# Altium footprint library switch-dil.PCBLIB: 88 footprints (part 3 of 6)
Each footprint in its own frame and in the unit in brackets; x right, y up, seen from the top. Pads: shape width x height; smd on the part's side, far side on the other; paste and mask are expansions set on the pad; w line width, h text height; cw(c..) or ccw(c..) is an arc to the next point about the centre after c.
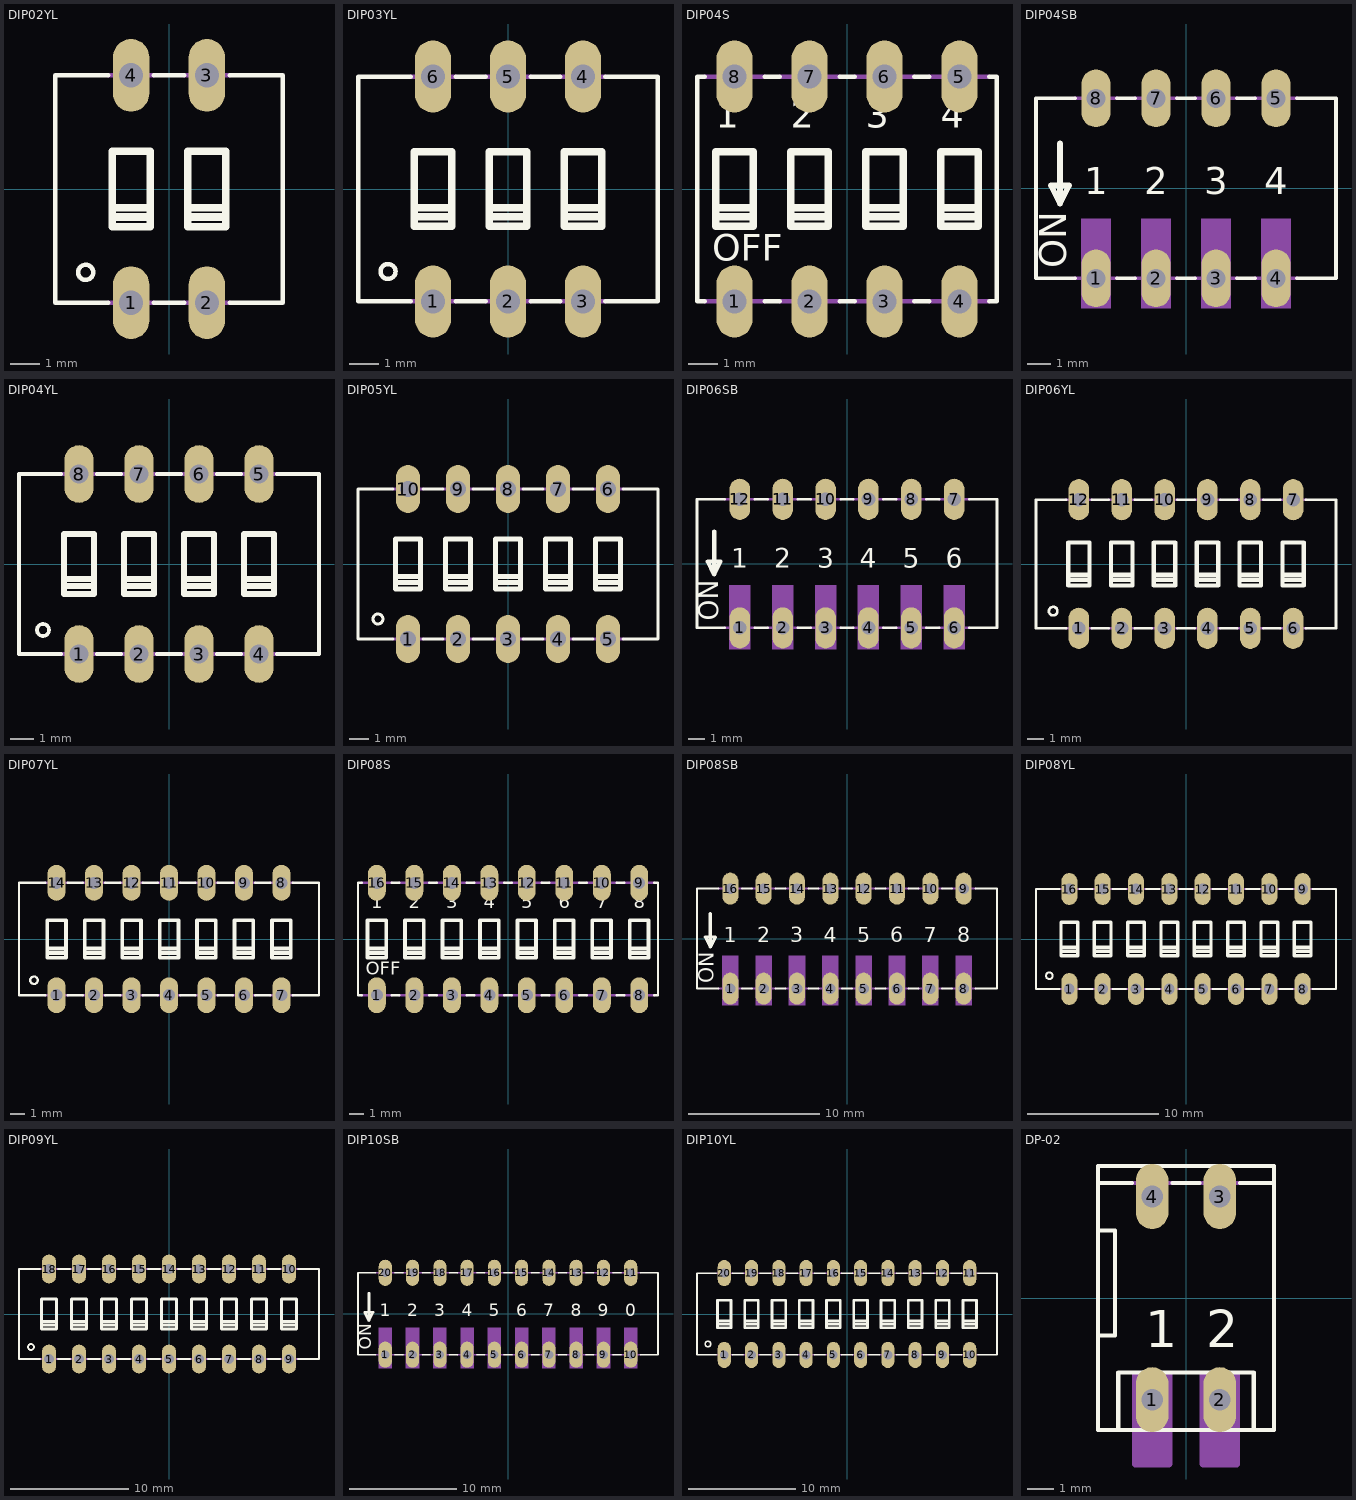
[diagram p2: the footprints below, top view; thin cyan lines are the x and y axes]

## DIP02YL [mil]
pads (4):
  oval 48x96 hole 32: 1(-50,-150) 2(50,-150) 3(50,150) 4(-50,150)
Top Overlay:
  circle w6: c-110,-110 r10
  lines w6: -80,-150 -150,-150 -150,150 -80,150 ; -20,-150 20,-150 ; -20,150 20,150 ; 80,-150 150,-150 150,150 80,150
  lines w10: -75,-37 -25,-37 ; -75,-37 -75,-50 -25,-50 -25,-37 ; -75,-37 -75,-25 ; -75,-25 -75,50 -25,50 -25,-25 ; -75,-25 -25,-25 ; -25,-37 -25,-25 ; 25,-37 75,-37 ; 25,-37 25,-50 75,-50 75,-37 ; 25,-37 25,-25 ; 25,-25 25,50 75,50 75,-25 ; 25,-25 75,-25 ; 75,-37 75,-25
Mechanical 16:
  lines w6: -80,-150 -20,-150 ; -80,150 -20,150 ; 20,-150 80,-150 ; 20,150 80,150
  text "1" at -65,-120 h77.5
  text "2" at 35,-120 h77.5
  text "ON" at -65,67 h77.5

## DIP03YL [mil]
pads (6):
  oval 48x96 hole 32: 1(-100,-150) 2(0,-150) 3(100,-150) 4(100,150) 5(0,150) 6(-100,150)
Top Overlay:
  circle w6: c-160,-110 r10
  lines w6: -130,-150 -200,-150 -200,150 -130,150 ; -70,-150 -30,-150 ; -70,150 -30,150 ; 30,-150 70,-150 ; 30,150 70,150 ; 130,-150 200,-150 200,150 130,150
  lines w10: -125,-37 -75,-37 ; -125,-37 -125,-50 -75,-50 -75,-37 ; -125,-37 -125,-25 ; -125,-25 -125,50 -75,50 -75,-25 ; -125,-25 -75,-25 ; -75,-37 -75,-25 ; -25,-37 25,-37 ; -25,-37 -25,-50 25,-50 25,-37 ; -25,-37 -25,-25 ; -25,-25 -25,50 25,50 25,-25 ; -25,-25 25,-25 ; 25,-37 25,-25 ; 75,-37 125,-37 ; 75,-37 75,-50 125,-50 125,-37 ; 75,-37 75,-25 ; 75,-25 75,50 125,50 125,-25 ; 75,-25 125,-25 ; 125,-37 125,-25
Mechanical 16:
  lines w6: -130,-150 -70,-150 ; -130,150 -70,150 ; -30,-150 30,-150 ; -30,150 30,150 ; 70,-150 130,-150 ; 70,150 130,150
  text "1" at -115,-120 h77.5
  text "2" at -15,-120 h77.5
  text "3" at 85,-120 h77.5
  text "ON" at -115,67 h77.5

## DIP04S [mil]
pads (8):
  oval 48x96 hole 32: 1(-150,-150) 2(-50,-150) 3(50,-150) 4(150,-150) 5(150,150) 6(50,150) 7(-50,150) 8(-150,150)
Top Overlay:
  lines w6: -190,-150 -200,-150 -200,150 -190,150 ; -110,-150 -90,-150 ; -110,150 -90,150 ; -10,-150 10,-150 ; -10,150 10,150 ; 90,-150 110,-150 ; 90,150 110,150 ; 190,-150 200,-150 200,150 190,150
  lines w10: -175,-37 -125,-37 ; -175,-37 -175,-50 -125,-50 -125,-37 ; -175,-37 -175,-25 ; -175,-25 -175,50 -125,50 -125,-25 ; -175,-25 -125,-25 ; -125,-37 -125,-25 ; -75,-37 -25,-37 ; -75,-37 -75,-50 -25,-50 -25,-37 ; -75,-37 -75,-25 ; -75,-25 -75,50 -25,50 -25,-25 ; -75,-25 -25,-25 ; -25,-37 -25,-25 ; 25,-37 75,-37 ; 25,-37 25,-50 75,-50 75,-37 ; 25,-37 25,-25 ; 25,-25 25,50 75,50 75,-25 ; 25,-25 75,-25 ; 75,-37 75,-25 ; 125,-37 175,-37 ; 125,-37 125,-50 175,-50 175,-37 ; 125,-37 125,-25 ; 125,-25 125,50 175,50 175,-25 ; 125,-25 175,-25 ; 175,-37 175,-25
  text "1" at -175,70 h60.45
  text "2" at -75,70 h60.45
  text "3" at 25,70 h60.45
  text "4" at 125,70 h60.45
  text "OFF" at -180,-108 h60.45
Mechanical 16:
  lines w6: -190,-150 -110,-150 ; -190,150 -110,150 ; -90,-150 -10,-150 ; -90,150 -10,150 ; 10,-150 90,-150 ; 10,150 90,150 ; 110,-150 190,-150 ; 110,150 190,150

## DIP04SB [mil]
pads (8):
  oval 48x96 hole 32: 1(-150,-150) 2(-50,-150) 3(50,-150) 4(150,-150) 5(150,150) 6(50,150) 7(-50,150) 8(-150,150)
Top Overlay:
  lines w6: -185,-150 -250,-150 -250,150 -185,150 ; -115,-150 -85,-150 ; -115,150 -85,150 ; -15,-150 15,-150 ; -15,150 15,150 ; 85,-150 115,-150 ; 85,150 115,150 ; 185,-150 250,-150 250,150 185,150
  lines w10: -210,75 -210,-25 ; -210,-25 -195,5 -225,5 -210,-25
  text "1" at -170,-25 h77.5
  text "2" at -70,-25 h77.5
  text "3" at 30,-25 h77.5
  text "4" at 130,-25 h77.5
  text "ON" at -185,-133 h77.5
Mechanical 16:
  rectangle: -175,-200 -125,-50
  rectangle: -75,-200 -25,-50
  rectangle: 25,-200 75,-50
  rectangle: 125,-200 175,-50
  lines w6: -185,-150 -175,-150 ; -185,150 -115,150 ; -130,-150 -115,-150 ; -85,-150 -75,-150 ; -85,150 -15,150 ; -25,-150 -15,-150 ; 15,-150 25,-150 ; 15,150 85,150 ; 75,-150 85,-150 ; 115,-150 125,-150 ; 115,150 185,150 ; 175,-150 185,-150

## DIP04YL [mil]
pads (8):
  oval 48x96 hole 32: 1(-150,-150) 2(-50,-150) 3(50,-150) 4(150,-150) 5(150,150) 6(50,150) 7(-50,150) 8(-150,150)
Top Overlay:
  circle w6: c-210,-110 r10
  lines w6: -180,-150 -250,-150 -250,150 -180,150 ; -120,-150 -80,-150 ; -120,150 -80,150 ; -20,-150 20,-150 ; -20,150 20,150 ; 80,-150 120,-150 ; 80,150 120,150 ; 180,-150 250,-150 250,150 180,150
  lines w10: -175,-37 -125,-37 ; -175,-37 -175,-50 -125,-50 -125,-37 ; -175,-37 -175,-25 ; -175,-25 -175,50 -125,50 -125,-25 ; -175,-25 -125,-25 ; -125,-37 -125,-25 ; -75,-37 -25,-37 ; -75,-37 -75,-50 -25,-50 -25,-37 ; -75,-37 -75,-25 ; -75,-25 -75,50 -25,50 -25,-25 ; -75,-25 -25,-25 ; -25,-37 -25,-25 ; 25,-37 75,-37 ; 25,-37 25,-50 75,-50 75,-37 ; 25,-37 25,-25 ; 25,-25 25,50 75,50 75,-25 ; 25,-25 75,-25 ; 75,-37 75,-25 ; 125,-37 175,-37 ; 125,-37 125,-50 175,-50 175,-37 ; 125,-37 125,-25 ; 125,-25 125,50 175,50 175,-25 ; 125,-25 175,-25 ; 175,-37 175,-25
Mechanical 16:
  lines w6: -180,-150 -120,-150 ; -180,150 -120,150 ; -80,-150 -20,-150 ; -80,150 -20,150 ; 20,-150 80,-150 ; 20,150 80,150 ; 120,-150 180,-150 ; 120,150 180,150
  text "1" at -165,-120 h77.5
  text "2" at -65,-120 h77.5
  text "3" at 35,-120 h77.5
  text "4" at 135,-120 h77.5
  text "ON" at -165,67 h77.5

## DIP05YL [mil]
pads (10):
  oval 48x96 hole 32: 1(-200,-150) 2(-100,-150) 3(0,-150) 4(100,-150) 5(200,-150) 6(200,150) 7(100,150) 8(0,150) 9(-100,150) 10(-200,150)
Top Overlay:
  circle w6: c-260,-110 r10
  lines w6: -230,-150 -300,-150 -300,150 -230,150 ; -170,-150 -130,-150 ; -170,150 -130,150 ; -70,-150 -30,-150 ; -70,150 -30,150 ; 30,-150 70,-150 ; 30,150 70,150 ; 130,-150 170,-150 ; 130,150 170,150 ; 230,-150 300,-150 300,150 230,150
  lines w10: -225,-37 -175,-37 ; -225,-37 -225,-50 -175,-50 -175,-37 ; -225,-37 -225,-25 ; -225,-25 -225,50 -175,50 -175,-25 ; -225,-25 -175,-25 ; -175,-37 -175,-25 ; -125,-37 -75,-37 ; -125,-37 -125,-50 -75,-50 -75,-37 ; -125,-37 -125,-25 ; -125,-25 -125,50 -75,50 -75,-25 ; -125,-25 -75,-25 ; -75,-37 -75,-25 ; -25,-37 25,-37 ; -25,-37 -25,-50 25,-50 25,-37 ; -25,-37 -25,-25 ; -25,-25 -25,50 25,50 25,-25 ; -25,-25 25,-25 ; 25,-37 25,-25 ; 75,-37 125,-37 ; 75,-37 75,-50 125,-50 125,-37 ; 75,-37 75,-25 ; 75,-25 75,50 125,50 125,-25 ; 75,-25 125,-25 ; 125,-37 125,-25 ; 175,-37 225,-37 ; 175,-37 175,-50 225,-50 225,-37 ; 175,-37 175,-25 ; 175,-25 175,50 225,50 225,-25 ; 175,-25 225,-25 ; 225,-37 225,-25
Mechanical 16:
  lines w6: -230,-150 -170,-150 ; -230,150 -170,150 ; -130,-150 -70,-150 ; -130,150 -70,150 ; -30,-150 30,-150 ; -30,150 30,150 ; 70,-150 130,-150 ; 70,150 130,150 ; 170,-150 230,-150 ; 170,150 230,150
  text "1" at -215,-120 h77.5
  text "2" at -115,-120 h77.5
  text "3" at -15,-120 h77.5
  text "4" at 85,-120 h77.5
  text "5" at 185,-120 h77.5
  text "ON" at -215,67 h77.5

## DIP06SB [mil]
pads (12):
  oval 48x96 hole 32: 1(-250,-150) 2(-150,-150) 3(-50,-150) 4(50,-150) 5(150,-150) 6(250,-150) 7(250,150) 8(150,150) 9(50,150) 10(-50,150) 11(-150,150) 12(-250,150)
Top Overlay:
  lines w6: -285,-150 -350,-150 -350,150 -285,150 ; -215,-150 -185,-150 ; -215,150 -185,150 ; -115,-150 -85,-150 ; -115,150 -85,150 ; -15,-150 15,-150 ; -15,150 15,150 ; 85,-150 115,-150 ; 85,150 115,150 ; 185,-150 215,-150 ; 185,150 215,150 ; 285,-150 350,-150 350,150 285,150
  lines w10: -310,75 -310,-25 ; -310,-25 -295,5 -325,5 -310,-25
  text "1" at -270,-25 h77.5
  text "2" at -170,-25 h77.5
  text "3" at -70,-25 h77.5
  text "4" at 30,-25 h77.5
  text "ON" at -285,-133 h77.5
  text "5" at 130,-25 h77.5
  text "6" at 230,-25 h77.5
Mechanical 16:
  rectangle: -275,-200 -225,-50
  rectangle: -175,-200 -125,-50
  rectangle: -75,-200 -25,-50
  rectangle: 25,-200 75,-50
  rectangle: 125,-200 175,-50
  rectangle: 225,-200 275,-50
  lines w6: -285,-150 -275,-150 ; -285,150 -215,150 ; -230,-150 -215,-150 ; -185,-150 -175,-150 ; -185,150 -115,150 ; -125,-150 -115,-150 ; -85,-150 -75,-150 ; -85,150 -15,150 ; -25,-150 -15,-150 ; 15,-150 25,-150 ; 15,150 85,150 ; 75,-150 85,-150 ; 115,-150 125,-150 ; 115,150 185,150 ; 175,-150 185,-150 ; 215,-150 225,-150 ; 215,150 285,150 ; 275,-150 285,-150

## DIP06YL [mil]
pads (12):
  oval 48x96 hole 32: 1(-250,-150) 2(-150,-150) 3(-50,-150) 4(50,-150) 5(150,-150) 6(250,-150) 7(250,150) 8(150,150) 9(50,150) 10(-50,150) 11(-150,150) 12(-250,150)
Top Overlay:
  circle w6: c-310,-110 r10
  lines w6: -280,-150 -350,-150 -350,150 -280,150 ; -220,-150 -180,-150 ; -220,150 -180,150 ; -120,-150 -80,-150 ; -120,150 -80,150 ; -20,-150 20,-150 ; -20,150 20,150 ; 80,-150 120,-150 ; 80,150 120,150 ; 180,-150 220,-150 ; 180,150 220,150 ; 280,-150 350,-150 350,150 280,150
  lines w10: -275,-37 -225,-37 ; -275,-37 -275,-50 -225,-50 -225,-37 ; -275,-37 -275,-25 ; -275,-25 -275,50 -225,50 -225,-25 ; -275,-25 -225,-25 ; -225,-37 -225,-25 ; -175,-37 -125,-37 ; -175,-37 -175,-50 -125,-50 -125,-37 ; -175,-37 -175,-25 ; -175,-25 -175,50 -125,50 -125,-25 ; -175,-25 -125,-25 ; -125,-37 -125,-25 ; -75,-37 -25,-37 ; -75,-37 -75,-50 -25,-50 -25,-37 ; -75,-37 -75,-25 ; -75,-25 -75,50 -25,50 -25,-25 ; -75,-25 -25,-25 ; -25,-37 -25,-25 ; 25,-37 75,-37 ; 25,-37 25,-50 75,-50 75,-37 ; 25,-37 25,-25 ; 25,-25 25,50 75,50 75,-25 ; 25,-25 75,-25 ; 75,-37 75,-25 ; 125,-37 175,-37 ; 125,-37 125,-50 175,-50 175,-37 ; 125,-37 125,-25 ; 125,-25 125,50 175,50 175,-25 ; 125,-25 175,-25 ; 175,-37 175,-25 ; 225,-37 275,-37 ; 225,-37 225,-50 275,-50 275,-37 ; 225,-37 225,-25 ; 225,-25 225,50 275,50 275,-25 ; 225,-25 275,-25 ; 275,-37 275,-25
Mechanical 16:
  lines w6: -280,-150 -220,-150 ; -280,150 -220,150 ; -180,-150 -120,-150 ; -180,150 -120,150 ; -80,-150 -20,-150 ; -80,150 -20,150 ; 20,-150 80,-150 ; 20,150 80,150 ; 120,-150 180,-150 ; 120,150 180,150 ; 220,-150 280,-150 ; 220,150 280,150
  text "1" at -265,-120 h77.5
  text "2" at -165,-120 h77.5
  text "3" at -65,-120 h77.5
  text "4" at 35,-120 h77.5
  text "5" at 135,-120 h77.5
  text "6" at 235,-120 h77.5
  text "ON" at -265,67 h77.5

## DIP07YL [mil]
pads (14):
  oval 48x96 hole 32: 1(-300,-150) 2(-200,-150) 3(-100,-150) 4(0,-150) 5(100,-150) 6(200,-150) 7(300,-150) 8(300,150) 9(200,150) 10(100,150) 11(0,150) 12(-100,150) 13(-200,150) 14(-300,150)
Top Overlay:
  circle w6: c-360,-110 r10
  lines w6: -330,-150 -400,-150 -400,150 -330,150 ; -270,-150 -230,-150 ; -270,150 -230,150 ; -170,-150 -130,-150 ; -170,150 -130,150 ; -70,-150 -30,-150 ; -70,150 -30,150 ; 30,-150 70,-150 ; 30,150 70,150 ; 130,-150 170,-150 ; 130,150 170,150 ; 230,-150 270,-150 ; 230,150 270,150 ; 330,-150 400,-150 400,150 330,150
  lines w10: -325,-37 -275,-37 ; -325,-37 -325,-50 -275,-50 -275,-37 ; -325,-37 -325,-25 ; -325,-25 -325,50 -275,50 -275,-25 ; -325,-25 -275,-25 ; -275,-37 -275,-25 ; -225,-37 -175,-37 ; -225,-37 -225,-50 -175,-50 -175,-37 ; -225,-37 -225,-25 ; -225,-25 -225,50 -175,50 -175,-25 ; -225,-25 -175,-25 ; -175,-37 -175,-25 ; -125,-37 -75,-37 ; -125,-37 -125,-50 -75,-50 -75,-37 ; -125,-37 -125,-25 ; -125,-25 -125,50 -75,50 -75,-25 ; -125,-25 -75,-25 ; -75,-37 -75,-25 ; -25,-37 25,-37 ; -25,-37 -25,-50 25,-50 25,-37 ; -25,-37 -25,-25 ; -25,-25 -25,50 25,50 25,-25 ; -25,-25 25,-25 ; 25,-37 25,-25 ; 75,-37 125,-37 ; 75,-37 75,-50 125,-50 125,-37 ; 75,-37 75,-25 ; 75,-25 75,50 125,50 125,-25 ; 75,-25 125,-25 ; 125,-37 125,-25 ; 175,-37 225,-37 ; 175,-37 175,-50 225,-50 225,-37 ; 175,-37 175,-25 ; 175,-25 175,50 225,50 225,-25 ; 175,-25 225,-25 ; 225,-37 225,-25 ; 275,-37 325,-37 ; 275,-37 275,-50 325,-50 325,-37 ; 275,-37 275,-25 ; 275,-25 275,50 325,50 325,-25 ; 275,-25 325,-25 ; 325,-37 325,-25
Mechanical 16:
  lines w6: -330,-150 -270,-150 ; -330,150 -270,150 ; -230,-150 -170,-150 ; -230,150 -170,150 ; -130,-150 -70,-150 ; -130,150 -70,150 ; -30,-150 30,-150 ; -30,150 30,150 ; 70,-150 130,-150 ; 70,150 130,150 ; 170,-150 230,-150 ; 170,150 230,150 ; 270,-150 330,-150 ; 270,150 330,150
  text "1" at -315,-120 h77.5
  text "2" at -215,-120 h77.5
  text "3" at -115,-120 h77.5
  text "4" at -15,-120 h77.5
  text "5" at 85,-120 h77.5
  text "6" at 185,-120 h77.5
  text "7" at 285,-120 h77.5
  text "ON" at -315,67 h77.5

## DIP08S [mil]
pads (16):
  oval 48x96 hole 32: 1(-350,-150) 2(-250,-150) 3(-150,-150) 4(-50,-150) 5(50,-150) 6(150,-150) 7(250,-150) 8(350,-150) 9(350,150) 10(250,150) 11(150,150) 12(50,150) 13(-50,150) 14(-150,150) 15(-250,150) 16(-350,150)
Top Overlay:
  lines w6: -390,-150 -400,-150 -400,150 -390,150 ; -310,-150 -290,-150 ; -310,150 -290,150 ; -210,-150 -190,-150 ; -210,150 -190,150 ; -110,-150 -90,-150 ; -110,150 -90,150 ; -10,-150 10,-150 ; -10,150 10,150 ; 90,-150 110,-150 ; 90,150 110,150 ; 190,-150 210,-150 ; 190,150 210,150 ; 290,-150 310,-150 ; 290,150 310,150 ; 390,-150 400,-150 400,150 390,150
  lines w10: -375,-37 -325,-37 ; -375,-37 -375,-50 -325,-50 -325,-37 ; -375,-37 -375,-25 ; -375,-25 -375,50 -325,50 -325,-25 ; -375,-25 -325,-25 ; -325,-37 -325,-25 ; -275,-37 -225,-37 ; -275,-37 -275,-50 -225,-50 -225,-37 ; -275,-37 -275,-25 ; -275,-25 -275,50 -225,50 -225,-25 ; -275,-25 -225,-25 ; -225,-37 -225,-25 ; -175,-37 -125,-37 ; -175,-37 -175,-50 -125,-50 -125,-37 ; -175,-37 -175,-25 ; -175,-25 -175,50 -125,50 -125,-25 ; -175,-25 -125,-25 ; -125,-37 -125,-25 ; -75,-37 -25,-37 ; -75,-37 -75,-50 -25,-50 -25,-37 ; -75,-37 -75,-25 ; -75,-25 -75,50 -25,50 -25,-25 ; -75,-25 -25,-25 ; -25,-37 -25,-25 ; 25,-37 75,-37 ; 25,-37 25,-50 75,-50 75,-37 ; 25,-37 25,-25 ; 25,-25 25,50 75,50 75,-25 ; 25,-25 75,-25 ; 75,-37 75,-25 ; 125,-37 175,-37 ; 125,-37 125,-50 175,-50 175,-37 ; 125,-37 125,-25 ; 125,-25 125,50 175,50 175,-25 ; 125,-25 175,-25 ; 175,-37 175,-25 ; 225,-37 275,-37 ; 225,-37 225,-50 275,-50 275,-37 ; 225,-37 225,-25 ; 225,-25 225,50 275,50 275,-25 ; 225,-25 275,-25 ; 275,-37 275,-25 ; 325,-37 375,-37 ; 325,-37 325,-50 375,-50 375,-37 ; 325,-37 325,-25 ; 325,-25 325,50 375,50 375,-25 ; 325,-25 375,-25 ; 375,-37 375,-25
  text "1" at -365,70 h60.45
  text "2" at -265,70 h60.45
  text "3" at -165,70 h60.45
  text "4" at -65,70 h60.45
  text "OFF" at -380,-108 h60.45
  text "5" at 35,70 h60.45
  text "6" at 135,70 h60.45
  text "7" at 235,70 h60.45
  text "8" at 335,70 h60.45
Mechanical 16:
  lines w6: -390,-150 -310,-150 ; -390,150 -310,150 ; -290,-150 -210,-150 ; -290,150 -210,150 ; -190,-150 -110,-150 ; -190,150 -110,150 ; -90,-150 -10,-150 ; -90,150 -10,150 ; 10,-150 90,-150 ; 10,150 90,150 ; 110,-150 190,-150 ; 110,150 190,150 ; 210,-150 290,-150 ; 210,150 290,150 ; 310,-150 390,-150 ; 310,150 390,150

## DIP08SB [mil]
pads (16):
  oval 48x96 hole 32: 1(-350,-150) 2(-250,-150) 3(-150,-150) 4(-50,-150) 5(50,-150) 6(150,-150) 7(250,-150) 8(350,-150) 9(350,150) 10(250,150) 11(150,150) 12(50,150) 13(-50,150) 14(-150,150) 15(-250,150) 16(-350,150)
Top Overlay:
  lines w6: -385,-150 -450,-150 -450,150 -385,150 ; -315,-150 -285,-150 ; -315,150 -285,150 ; -215,-150 -185,-150 ; -215,150 -185,150 ; -115,-150 -85,-150 ; -115,150 -85,150 ; -15,-150 15,-150 ; -15,150 15,150 ; 85,-150 115,-150 ; 85,150 115,150 ; 185,-150 215,-150 ; 185,150 215,150 ; 285,-150 315,-150 ; 285,150 315,150 ; 385,-150 450,-150 450,150 385,150
  lines w10: -410,75 -410,-25 ; -410,-25 -395,5 -425,5 -410,-25
  text "1" at -370,-25 h77.5
  text "2" at -270,-25 h77.5
  text "3" at -170,-25 h77.5
  text "4" at -70,-25 h77.5
  text "5" at 30,-25 h77.5
  text "6" at 130,-25 h77.5
  text "7" at 230,-25 h77.5
  text "8" at 330,-25 h77.5
  text "ON" at -385,-133 h77.5
Mechanical 16:
  rectangle: -375,-200 -325,-50
  rectangle: -275,-200 -225,-50
  rectangle: -175,-200 -125,-50
  rectangle: -75,-200 -25,-50
  rectangle: 25,-200 75,-50
  rectangle: 125,-200 175,-50
  rectangle: 225,-200 275,-50
  rectangle: 325,-200 375,-50
  lines w6: -385,-150 -375,-150 ; -385,150 -315,150 ; -330,-150 -315,-150 ; -285,-150 -275,-150 ; -285,150 -215,150 ; -225,-150 -215,-150 ; -185,-150 -175,-150 ; -185,150 -115,150 ; -125,-150 -115,-150 ; -85,-150 -75,-150 ; -85,150 -15,150 ; -25,-150 -15,-150 ; 15,-150 25,-150 ; 15,150 85,150 ; 75,-150 85,-150 ; 115,-150 125,-150 ; 115,150 185,150 ; 175,-150 185,-150 ; 215,-150 225,-150 ; 215,150 285,150 ; 275,-150 285,-150 ; 315,-150 325,-150 ; 315,150 385,150 ; 375,-150 385,-150

## DIP08YL [mil]
pads (16):
  oval 48x96 hole 32: 1(-350,-150) 2(-250,-150) 3(-150,-150) 4(-50,-150) 5(50,-150) 6(150,-150) 7(250,-150) 8(350,-150) 9(350,150) 10(250,150) 11(150,150) 12(50,150) 13(-50,150) 14(-150,150) 15(-250,150) 16(-350,150)
Top Overlay:
  circle w6: c-410,-110 r10
  lines w6: -380,-150 -450,-150 -450,150 -380,150 ; -320,-150 -280,-150 ; -320,150 -280,150 ; -220,-150 -180,-150 ; -220,150 -180,150 ; -120,-150 -80,-150 ; -120,150 -80,150 ; -20,-150 20,-150 ; -20,150 20,150 ; 80,-150 120,-150 ; 80,150 120,150 ; 180,-150 220,-150 ; 180,150 220,150 ; 280,-150 320,-150 ; 280,150 320,150 ; 380,-150 450,-150 450,150 380,150
  lines w10: -375,-37 -325,-37 ; -375,-37 -375,-50 -325,-50 -325,-37 ; -375,-37 -375,-25 ; -375,-25 -375,50 -325,50 -325,-25 ; -375,-25 -325,-25 ; -325,-37 -325,-25 ; -275,-37 -225,-37 ; -275,-37 -275,-50 -225,-50 -225,-37 ; -275,-37 -275,-25 ; -275,-25 -275,50 -225,50 -225,-25 ; -275,-25 -225,-25 ; -225,-37 -225,-25 ; -175,-37 -125,-37 ; -175,-37 -175,-50 -125,-50 -125,-37 ; -175,-37 -175,-25 ; -175,-25 -175,50 -125,50 -125,-25 ; -175,-25 -125,-25 ; -125,-37 -125,-25 ; -75,-37 -25,-37 ; -75,-37 -75,-50 -25,-50 -25,-37 ; -75,-37 -75,-25 ; -75,-25 -75,50 -25,50 -25,-25 ; -75,-25 -25,-25 ; -25,-37 -25,-25 ; 25,-37 75,-37 ; 25,-37 25,-50 75,-50 75,-37 ; 25,-37 25,-25 ; 25,-25 25,50 75,50 75,-25 ; 25,-25 75,-25 ; 75,-37 75,-25 ; 125,-37 175,-37 ; 125,-37 125,-50 175,-50 175,-37 ; 125,-37 125,-25 ; 125,-25 125,50 175,50 175,-25 ; 125,-25 175,-25 ; 175,-37 175,-25 ; 225,-37 275,-37 ; 225,-37 225,-50 275,-50 275,-37 ; 225,-37 225,-25 ; 225,-25 225,50 275,50 275,-25 ; 225,-25 275,-25 ; 275,-37 275,-25 ; 325,-37 375,-37 ; 325,-37 325,-50 375,-50 375,-37 ; 325,-37 325,-25 ; 325,-25 325,50 375,50 375,-25 ; 325,-25 375,-25 ; 375,-37 375,-25
Mechanical 16:
  lines w6: -380,-150 -320,-150 ; -380,150 -320,150 ; -280,-150 -220,-150 ; -280,150 -220,150 ; -180,-150 -120,-150 ; -180,150 -120,150 ; -80,-150 -20,-150 ; -80,150 -20,150 ; 20,-150 80,-150 ; 20,150 80,150 ; 120,-150 180,-150 ; 120,150 180,150 ; 220,-150 280,-150 ; 220,150 280,150 ; 320,-150 380,-150 ; 320,150 380,150
  text "1" at -365,-120 h77.5
  text "2" at -265,-120 h77.5
  text "3" at -165,-120 h77.5
  text "4" at -65,-120 h77.5
  text "5" at 35,-120 h77.5
  text "6" at 135,-120 h77.5
  text "7" at 235,-120 h77.5
  text "8" at 335,-120 h77.5
  text "ON" at -365,67 h77.5

## DIP09YL [mil]
pads (18):
  oval 48x96 hole 32: 1(-400,-150) 2(-300,-150) 3(-200,-150) 4(-100,-150) 5(0,-150) 6(100,-150) 7(200,-150) 8(300,-150) 9(400,-150) 10(400,150) 11(300,150) 12(200,150) 13(100,150) 14(0,150) 15(-100,150) 16(-200,150) 17(-300,150) 18(-400,150)
Top Overlay:
  circle w6: c-460,-110 r10
  lines w6: -430,-150 -500,-150 -500,150 -430,150 ; -370,-150 -330,-150 ; -370,150 -330,150 ; -270,-150 -230,-150 ; -270,150 -230,150 ; -170,-150 -130,-150 ; -170,150 -130,150 ; -70,-150 -30,-150 ; -70,150 -30,150 ; 30,-150 70,-150 ; 30,150 70,150 ; 130,-150 170,-150 ; 130,150 170,150 ; 230,-150 270,-150 ; 230,150 270,150 ; 330,-150 370,-150 ; 330,150 370,150 ; 430,-150 500,-150 500,150 430,150
  lines w10: -425,-37 -375,-37 ; -425,-37 -425,-50 -375,-50 -375,-37 ; -425,-37 -425,-25 ; -425,-25 -425,50 -375,50 -375,-25 ; -425,-25 -375,-25 ; -375,-37 -375,-25 ; -325,-37 -275,-37 ; -325,-37 -325,-50 -275,-50 -275,-37 ; -325,-37 -325,-25 ; -325,-25 -325,50 -275,50 -275,-25 ; -325,-25 -275,-25 ; -275,-37 -275,-25 ; -225,-37 -175,-37 ; -225,-37 -225,-50 -175,-50 -175,-37 ; -225,-37 -225,-25 ; -225,-25 -225,50 -175,50 -175,-25 ; -225,-25 -175,-25 ; -175,-37 -175,-25 ; -125,-37 -75,-37 ; -125,-37 -125,-50 -75,-50 -75,-37 ; -125,-37 -125,-25 ; -125,-25 -125,50 -75,50 -75,-25 ; -125,-25 -75,-25 ; -75,-37 -75,-25 ; -25,-37 25,-37 ; -25,-37 -25,-50 25,-50 25,-37 ; -25,-37 -25,-25 ; -25,-25 -25,50 25,50 25,-25 ; -25,-25 25,-25 ; 25,-37 25,-25 ; 75,-37 125,-37 ; 75,-37 75,-50 125,-50 125,-37 ; 75,-37 75,-25 ; 75,-25 75,50 125,50 125,-25 ; 75,-25 125,-25 ; 125,-37 125,-25 ; 175,-37 225,-37 ; 175,-37 175,-50 225,-50 225,-37 ; 175,-37 175,-25 ; 175,-25 175,50 225,50 225,-25 ; 175,-25 225,-25 ; 225,-37 225,-25 ; 275,-37 325,-37 ; 275,-37 275,-50 325,-50 325,-37 ; 275,-37 275,-25 ; 275,-25 275,50 325,50 325,-25 ; 275,-25 325,-25 ; 325,-37 325,-25 ; 375,-37 425,-37 ; 375,-37 375,-50 425,-50 425,-37 ; 375,-37 375,-25 ; 375,-25 375,50 425,50 425,-25 ; 375,-25 425,-25 ; 425,-37 425,-25
Mechanical 16:
  lines w6: -430,-150 -370,-150 ; -430,150 -370,150 ; -330,-150 -270,-150 ; -330,150 -270,150 ; -230,-150 -170,-150 ; -230,150 -170,150 ; -130,-150 -70,-150 ; -130,150 -70,150 ; -30,-150 30,-150 ; -30,150 30,150 ; 70,-150 130,-150 ; 70,150 130,150 ; 170,-150 230,-150 ; 170,150 230,150 ; 270,-150 330,-150 ; 270,150 330,150 ; 370,-150 430,-150 ; 370,150 430,150
  text "1" at -415,-120 h77.5
  text "2" at -315,-120 h77.5
  text "3" at -215,-120 h77.5
  text "4" at -115,-120 h77.5
  text "5" at -15,-120 h77.5
  text "6" at 85,-120 h77.5
  text "7" at 185,-120 h77.5
  text "8" at 285,-120 h77.5
  text "ON" at -415,67 h77.5
  text "9" at 385,-120 h77.5

## DIP10SB [mil]
pads (20):
  oval 48x96 hole 32: 1(-450,-150) 2(-350,-150) 3(-250,-150) 4(-150,-150) 5(-50,-150) 6(50,-150) 7(150,-150) 8(250,-150) 9(350,-150) 10(450,-150) 11(450,150) 12(350,150) 13(250,150) 14(150,150) 15(50,150) 16(-50,150) 17(-150,150) 18(-250,150) 19(-350,150) 20(-450,150)
Top Overlay:
  lines w6: -485,-150 -550,-150 -550,150 -485,150 ; -415,-150 -385,-150 ; -415,150 -385,150 ; -315,-150 -285,-150 ; -315,150 -285,150 ; -215,-150 -185,-150 ; -215,150 -185,150 ; -115,-150 -85,-150 ; -115,150 -85,150 ; -15,-150 15,-150 ; -15,150 15,150 ; 85,-150 115,-150 ; 85,150 115,150 ; 185,-150 215,-150 ; 185,150 215,150 ; 285,-150 315,-150 ; 285,150 315,150 ; 385,-150 415,-150 ; 385,150 415,150 ; 485,-150 550,-150 550,150 485,150
  lines w10: -510,75 -510,-25 ; -510,-25 -495,5 -525,5 -510,-25
  text "1" at -470,-25 h77.5
  text "2" at -370,-25 h77.5
  text "3" at -270,-25 h77.5
  text "4" at -170,-25 h77.5
  text "5" at -70,-25 h77.5
  text "6" at 30,-25 h77.5
  text "7" at 130,-25 h77.5
  text "8" at 230,-25 h77.5
  text "ON" at -485,-133 h77.5
  text "9" at 330,-25 h77.5
  text "0" at 430,-25 h77.5
Mechanical 16:
  rectangle: -475,-200 -425,-50
  rectangle: -375,-200 -325,-50
  rectangle: -275,-200 -225,-50
  rectangle: -175,-200 -125,-50
  rectangle: -75,-200 -25,-50
  rectangle: 25,-200 75,-50
  rectangle: 125,-200 175,-50
  rectangle: 225,-200 275,-50
  rectangle: 325,-200 375,-50
  rectangle: 425,-200 475,-50
  lines w6: -485,-150 -475,-150 ; -485,150 -415,150 ; -430,-150 -415,-150 ; -385,-150 -375,-150 ; -385,150 -315,150 ; -325,-150 -315,-150 ; -285,-150 -275,-150 ; -285,150 -215,150 ; -225,-150 -215,-150 ; -185,-150 -175,-150 ; -185,150 -115,150 ; -125,-150 -115,-150 ; -85,-150 -75,-150 ; -85,150 -15,150 ; -25,-150 -15,-150 ; 15,-150 25,-150 ; 15,150 85,150 ; 75,-150 85,-150 ; 115,-150 125,-150 ; 115,150 185,150 ; 175,-150 185,-150 ; 215,-150 225,-150 ; 215,150 285,150 ; 275,-150 285,-150 ; 315,-150 325,-150 ; 315,150 385,150 ; 375,-150 385,-150 ; 415,-150 425,-150 ; 415,150 485,150 ; 475,-150 485,-150

## DIP10YL [mil]
pads (20):
  oval 48x96 hole 32: 1(-450,-150) 2(-350,-150) 3(-250,-150) 4(-150,-150) 5(-50,-150) 6(50,-150) 7(150,-150) 8(250,-150) 9(350,-150) 10(450,-150) 11(450,150) 12(350,150) 13(250,150) 14(150,150) 15(50,150) 16(-50,150) 17(-150,150) 18(-250,150) 19(-350,150) 20(-450,150)
Top Overlay:
  circle w6: c-510,-110 r10
  lines w6: -480,-150 -550,-150 -550,150 -480,150 ; -420,-150 -380,-150 ; -420,150 -380,150 ; -320,-150 -280,-150 ; -320,150 -280,150 ; -220,-150 -180,-150 ; -220,150 -180,150 ; -120,-150 -80,-150 ; -120,150 -80,150 ; -20,-150 20,-150 ; -20,150 20,150 ; 80,-150 120,-150 ; 80,150 120,150 ; 180,-150 220,-150 ; 180,150 220,150 ; 280,-150 320,-150 ; 280,150 320,150 ; 380,-150 420,-150 ; 380,150 420,150 ; 480,-150 550,-150 550,150 480,150
  lines w10: -475,-37 -425,-37 ; -475,-37 -475,-50 -425,-50 -425,-37 ; -475,-37 -475,-25 ; -475,-25 -475,50 -425,50 -425,-25 ; -475,-25 -425,-25 ; -425,-37 -425,-25 ; -375,-37 -325,-37 ; -375,-37 -375,-50 -325,-50 -325,-37 ; -375,-37 -375,-25 ; -375,-25 -375,50 -325,50 -325,-25 ; -375,-25 -325,-25 ; -325,-37 -325,-25 ; -275,-37 -225,-37 ; -275,-37 -275,-50 -225,-50 -225,-37 ; -275,-37 -275,-25 ; -275,-25 -275,50 -225,50 -225,-25 ; -275,-25 -225,-25 ; -225,-37 -225,-25 ; -175,-37 -125,-37 ; -175,-37 -175,-50 -125,-50 -125,-37 ; -175,-37 -175,-25 ; -175,-25 -175,50 -125,50 -125,-25 ; -175,-25 -125,-25 ; -125,-37 -125,-25 ; -75,-37 -25,-37 ; -75,-37 -75,-50 -25,-50 -25,-37 ; -75,-37 -75,-25 ; -75,-25 -75,50 -25,50 -25,-25 ; -75,-25 -25,-25 ; -25,-37 -25,-25 ; 25,-37 75,-37 ; 25,-37 25,-50 75,-50 75,-37 ; 25,-37 25,-25 ; 25,-25 25,50 75,50 75,-25 ; 25,-25 75,-25 ; 75,-37 75,-25 ; 125,-37 175,-37 ; 125,-37 125,-50 175,-50 175,-37 ; 125,-37 125,-25 ; 125,-25 125,50 175,50 175,-25 ; 125,-25 175,-25 ; 175,-37 175,-25 ; 225,-37 275,-37 ; 225,-37 225,-50 275,-50 275,-37 ; 225,-37 225,-25 ; 225,-25 225,50 275,50 275,-25 ; 225,-25 275,-25 ; 275,-37 275,-25 ; 325,-37 375,-37 ; 325,-37 325,-50 375,-50 375,-37 ; 325,-37 325,-25 ; 325,-25 325,50 375,50 375,-25 ; 325,-25 375,-25 ; 375,-37 375,-25 ; 425,-37 475,-37 ; 425,-37 425,-50 475,-50 475,-37 ; 425,-37 425,-25 ; 425,-25 425,50 475,50 475,-25 ; 425,-25 475,-25 ; 475,-37 475,-25
Mechanical 16:
  lines w6: -480,-150 -420,-150 ; -480,150 -420,150 ; -380,-150 -320,-150 ; -380,150 -320,150 ; -280,-150 -220,-150 ; -280,150 -220,150 ; -180,-150 -120,-150 ; -180,150 -120,150 ; -80,-150 -20,-150 ; -80,150 -20,150 ; 20,-150 80,-150 ; 20,150 80,150 ; 120,-150 180,-150 ; 120,150 180,150 ; 220,-150 280,-150 ; 220,150 280,150 ; 320,-150 380,-150 ; 320,150 380,150 ; 420,-150 480,-150 ; 420,150 480,150
  text "1" at -465,-120 h77.5
  text "2" at -365,-120 h77.5
  text "3" at -265,-120 h77.5
  text "4" at -165,-120 h77.5
  text "5" at -65,-120 h77.5
  text "6" at 35,-120 h77.5
  text "7" at 135,-120 h77.5
  text "8" at 235,-120 h77.5
  text "ON" at -465,67 h77.5
  text "9" at 335,-120 h77.5
  text "0" at 435,-120 h77.5

## DP-02 [mil]
pads (4):
  oval 48x96 hole 32: 1(-50,-150) 2(50,-150) 3(50,150) 4(-50,150)
Top Overlay:
  lines w6: -80,170 -130,170 ; -20,170 20,170 ; 80,170 130,170 ; -130,-55 -105,-55 -105,100 -130,100 ; -130,-55 -130,100 ; -130,-55 -130,-195 -100,-195 ; -130,100 -130,170 ; -130,170 -130,195 130,195 130,170 ; -100,-195 100,-195 ; -100,-195 -100,-110 100,-110 100,-195 ; 100,-195 130,-195 130,170
  text "1" at -60,-90 h93
  text "2" at 30,-90 h93
Mechanical 16:
  rectangle: -80,-245 -20,-110
  rectangle: 20,-245 80,-110
  lines w6: -80,170 -20,170 ; 20,170 80,170
  lines w10: -75,-245 -25,-245 ; 25,-245 75,-245